# EAGLE library part MAX_1348XE (library kxnStandard_interface)
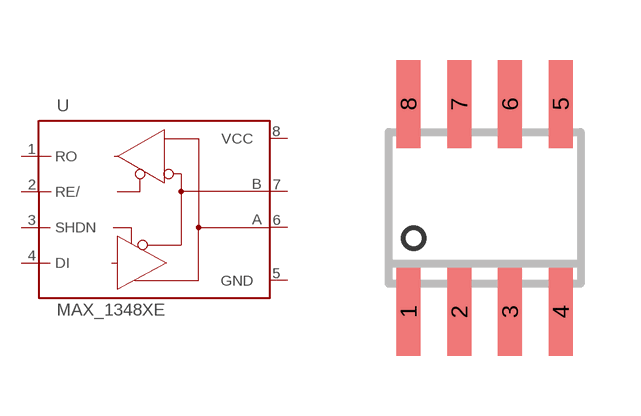
[diagram p5: symbol with the pads of SO08; footprint SO08]

Designator prefix -

## MAX_1348XE_SO08 (CC_SHOP: CongCo)  [SO08]
1  RO  out
2  RE/  in
3  SHDN  in
4  DI  in
5  GND  pwr
6  A  pas
7  B  pas
8  VCC  pwr

## Footprint SO08 (pad centres in mm)
smd 0.6 x 2.2: 1 -1.905,-2.6; 2 -0.635,-2.6; 3 0.635,-2.6; 4 1.905,-2.6; 5 1.905,2.6; 6 0.635,2.6; 7 -0.635,2.6; 8 -1.905,2.6